# Altium footprint library RFID_PcbLib.PcbLib: 23 footprints (part 2 of 2)
Each footprint in its own frame and in the unit in brackets; x right, y up, seen from the top. Pads: shape width x height; smd on the part's side, far side on the other; paste and mask are expansions set on the pad; w line width, h text height; cw(c..) or ccw(c..) is an arc to the next point about the centre after c.
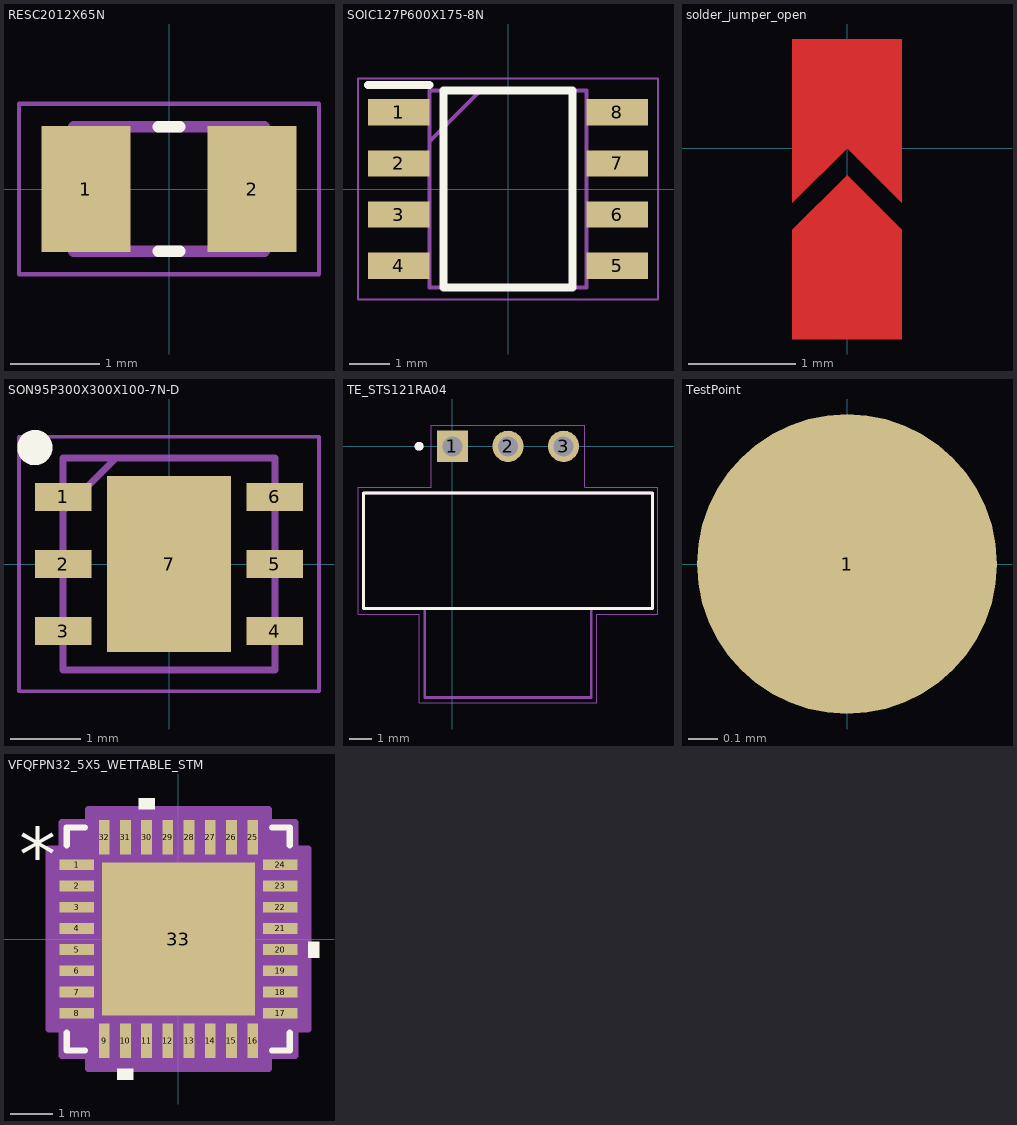
[diagram p1: the footprints below, top view; thin cyan lines are the x and y axes]

## RESC2012X65N [mm]
pads (2):
  rect 1x1.42 smd: 1(-0.935,0) 2(0.935,0)
Top Overlay:
  lines w0.127: -0.12,-0.7 0.12,-0.7 ; -0.12,0.7 0.12,0.7
Mechanical 13:
  lines w0.127: -1.07,-0.7 -1.07,0.7 1.07,0.7 1.07,-0.7 -1.07,-0.7
Mechanical 15:
  lines w0.05: -1.685,-0.96 -1.685,0.96 1.685,0.96 1.685,-0.96 -1.685,-0.96

## SOIC127P600X175-8N [mm]
pads (8):
  rect 1.525x0.65 smd: 1(-2.712,1.905) 2(-2.712,0.635) 3(-2.712,-0.635) 4(-2.712,-1.905) 5(2.712,-1.905) 6(2.712,-0.635) 7(2.712,0.635) 8(2.712,1.905)
Top Overlay:
  lines w0.2: -3.475,2.58 -1.95,2.58 ; -1.6,-2.45 1.6,-2.45 1.6,2.45 -1.6,2.45 -1.6,-2.45
Mechanical 13:
  lines w0.1: -1.95,1.18 -0.68,2.45 ; -1.95,-2.45 1.95,-2.45 1.95,2.45 -1.95,2.45 -1.95,-2.45
Mechanical 15:
  lines w0.05: -3.725,-2.75 3.725,-2.75 3.725,2.75 -3.725,2.75 -3.725,-2.75
3D body "NE555DR.stp": height 1.75, standoff 0, extent -3,-2.45 3,2.45

## solder_jumper_open [mm]
Top Layer:
  region: 0,0 0.508,-0.508 0.508,1.016 -0.508,1.016 -0.508,-0.508 -0.508,1.016 -0.508,-0.508
  region: 0,-0.254 -0.508,-0.762 -0.508,-1.778 0.508,-1.778 0.508,-0.762

## SON95P300X300X100-7N-D [mm]
pads (7):
  rect 0.8x0.4 smd: 1(-1.5,0.95) 2(-1.5,0) 3(-1.5,-0.95) 4(1.5,-0.95) 5(1.5,0) 6(1.5,0.95)
  rect 1.75x2.5 smd: 7(0,0)
Top Overlay:
  circle w0.25: c-1.9,1.65 r0.125
Mechanical 13:
  lines w0.1: -1.5,0.75 -0.75,1.5 ; -1.5,-1.5 -1.5,1.5 1.5,1.5 1.5,-1.5 -1.5,-1.5
Mechanical 15:
  lines w0.05: -2.125,-1.8 -2.125,1.8 2.125,1.8 2.125,-1.8 -2.125,-1.8
3D body "LD39050PU33R.stp": height 1, standoff 0, extent -1.55,-1.5 1.55,1.5

## TE_STS121RA04 [mm]
pads (3):
  rect 1.408x1.408 hole 0.9: 1(0,0)
  round 1.408 hole 0.9: 2(2.5,0) 3(5,0)
Top Overlay:
  circle w0.2: c-1.5,0 r0.1
  lines w0.127: -4,-7.3 9,-7.3 9,-2.1 -4,-2.1 -4,-7.3
Mechanical 13:
  circle w0.2: c-1.5,0 r0.1
  lines w0.127: -1.245,-7.3 -1.245,-11.3 6.245,-11.3 6.245,-7.3 ; -1.245,-7.3 -4,-7.3 -4,-2.1 9,-2.1 9,-7.3 6.245,-7.3 ; -1.245,-7.3 6.245,-7.3
Mechanical 15:
  lines w0.05: -4.25,-7.55 -4.25,-1.85 -0.955,-1.85 -0.955,0.955 5.955,0.955 5.955,-1.85 9.25,-1.85 9.25,-7.55 6.495,-7.55 6.495,-11.55 -1.495,-11.55 -1.495,-7.55 -4.25,-7.55

## TestPoint [mil]
pads (1):
  round 40 smd: 1(0,0)

## VFQFPN32_5X5_WETTABLE_STM [mil]
pads (33):
  rect 32x10 smd paste+0 mask+0: 1(-94.5,68.9) 2(-94.5,49.21) 3(-94.5,29.53) 4(-94.5,9.84) 5(-94.5,-9.84) 6(-94.5,-29.53) 7(-94.5,-49.21) 8(-94.5,-68.9) 17(94.5,-68.9) 18(94.5,-49.21) 19(94.5,-29.53) 20(94.5,-9.84) 21(94.5,9.84) 22(94.5,29.53) 23(94.5,49.21) 24(94.5,68.9)
  rect 10x32 smd paste+0 mask+0: 9(-68.9,-94.5) 10(-49.21,-94.5) 11(-29.53,-94.5) 12(-9.84,-94.5) 13(9.84,-94.5) 14(29.53,-94.5) 15(49.21,-94.5) 16(68.9,-94.5) 25(68.9,94.5) 26(49.21,94.5) 27(29.53,94.5) 28(9.84,94.5) 29(-9.84,94.5) 30(-29.53,94.5) 31(-49.21,94.5) 32(-68.9,94.5)
  rect 142x142 smd paste-71 mask+0: 33(0,0)
Top Overlay:
  region: -41.71,-120.5 -56.71,-120.5 -56.71,-130.5 -41.71,-130.5
  region: 120.5,-2.34 130.5,-2.34 130.5,-17.34 120.5,-17.34
  region: -22.03,120.5 -37.03,120.5 -37.03,130.5 -22.03,130.5
  lines w6: -103.5,-87 -103.5,-103.5 -87,-103.5 ; -103.5,87 -103.5,103.5 -87,103.5 ; 87,-103.5 103.5,-103.5 103.5,-87 ; 87,103.5 103.5,103.5 103.5,87
  text "*" at -148,53.74 h50
Top Paste:
  region: -3.94,67.06 -67.06,67.06 -67.06,3.94 -3.94,3.94
  region: -3.94,-3.94 -67.06,-3.94 -67.06,-67.06 -3.94,-67.06
  region: 67.06,67.06 3.94,67.06 3.94,3.94 67.06,3.94
  region: 67.06,-3.94 3.94,-3.94 3.94,-67.06 67.06,-67.06
Mechanical 13:
  lines w1: -98.5,48.5 -48.5,98.5 ; -98.5,-98.5 98.5,-98.5 98.5,98.5 -98.5,98.5 -98.5,-98.5 ; -98.5,-74.9 -98.5,-62.9 -98.5,-74.9 ; -98.5,-55.21 -98.5,-43.21 -98.5,-55.21 ; -98.5,-35.53 -98.5,-23.53 -98.5,-35.53 ; -98.5,-15.84 -98.5,-3.84 -98.5,-15.84 ; -98.5,3.84 -98.5,15.84 -98.5,3.84 ; -98.5,23.53 -98.5,35.53 -98.5,23.53 ; -98.5,43.21 -98.5,55.21 -98.5,43.21 ; -98.5,62.9 -98.5,74.9 -98.5,62.9 ; -74.9,-98.5 -62.9,-98.5 -74.9,-98.5 ; -74.9,98.5 -62.9,98.5 -74.9,98.5 ; -55.21,-98.5 -43.21,-98.5 -55.21,-98.5 ; -55.21,98.5 -43.21,98.5 -55.21,98.5 ; -35.53,-98.5 -23.53,-98.5 -35.53,-98.5 ; -35.53,98.5 -23.53,98.5 -35.53,98.5 ; -15.84,-98.5 -3.84,-98.5 -15.84,-98.5 ; -15.84,98.5 -3.84,98.5 -15.84,98.5 ; 3.84,-98.5 15.84,-98.5 3.84,-98.5 ; 3.84,98.5 15.84,98.5 3.84,98.5 ; 23.53,-98.5 35.53,-98.5 23.53,-98.5 ; 23.53,98.5 35.53,98.5 23.53,98.5 ; 43.21,-98.5 55.21,-98.5 43.21,-98.5 ; 43.21,98.5 55.21,98.5 43.21,98.5 ; 62.9,-98.5 74.9,-98.5 62.9,-98.5 ; 62.9,98.5 74.9,98.5 62.9,98.5 ; 98.5,-74.9 98.5,-62.9 98.5,-74.9 ; 98.5,-55.21 98.5,-43.21 98.5,-55.21 ; 98.5,-35.53 98.5,-23.53 98.5,-35.53 ; 98.5,-15.84 98.5,-3.84 98.5,-15.84 ; 98.5,3.84 98.5,15.84 98.5,3.84 ; 98.5,23.53 98.5,35.53 98.5,23.53 ; 98.5,43.21 98.5,55.21 98.5,43.21 ; 98.5,62.9 98.5,74.9 98.5,62.9
  text "*" at -91,53.74 h50
Mechanical 15:
  region: -83.9,-108.5 -108.5,-108.5 -108.5,-83.9 -120.5,-83.9 -120.5,83.9 -108.5,83.9 -108.5,108.5 -83.9,108.5 -83.9,120.5 83.9,120.5 83.9,108.5 108.5,108.5 108.5,83.9 120.5,83.9 120.5,-83.9 108.5,-83.9 108.5,-108.5 83.9,-108.5 83.9,-120.5 -83.9,-120.5
  lines w6: -120.5,-83.9 -108.5,-83.9 -108.5,-108.5 -83.9,-108.5 -83.9,-120.5 83.9,-120.5 83.9,-108.5 108.5,-108.5 108.5,-83.9 120.5,-83.9 120.5,83.9 108.5,83.9 108.5,108.5 83.9,108.5 83.9,120.5 -83.9,120.5 -83.9,108.5 -108.5,108.5 -108.5,83.9 -120.5,83.9 -120.5,-83.9
3D body "VFQFPN32_5X5_WETTABLE_STM.step": height 39.09, standoff 0, extent -98.5,-98.5 98.5,98.5